# Altium schematic symbol library DIODE_LED.Schlib: 1 symbol
Pins are listed as number, name and electrical type; pins without a type are passive.

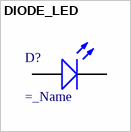
[diagram p0: symbol DIODE_LED]

## DIODE_LED
designator D?  (value not drawn)
=description; Value: =_Name
pins: 1 A, 2 K